# EAGLE library part MAX232_DUALEIA232DRIVER (library RS232Multiplexer)
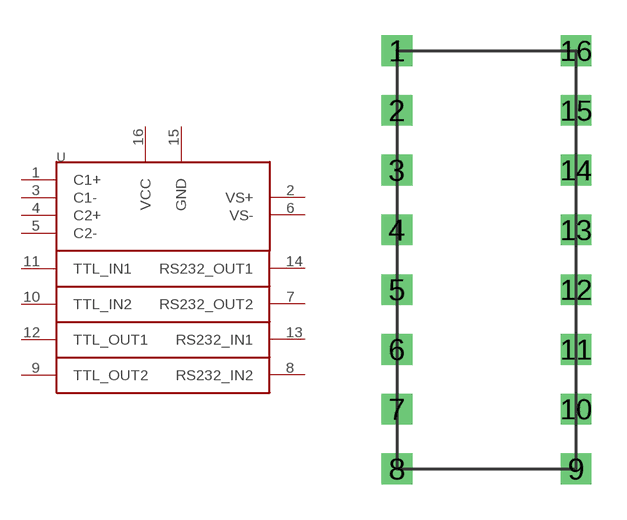
[diagram p1: symbol with the pads of GENERIC16; footprint GENERIC16]

Designator prefix -

## MAX232_DUALEIA232DRIVER  [GENERIC16]
1  C1+
2  VS+
3  C1-
4  C2+
5  C2-
6  VS-
7  RS232_OUT2
8  RS232_IN2
9  TTL_OUT2
10  TTL_IN2
11  TTL_IN1
12  TTL_OUT1
13  RS232_IN1
14  RS232_OUT1
15  GND
16  VCC

## Footprint GENERIC16 (pad centres in mm)
drill 0.8 square: 1 0,17.78; 2 0,15.24; 3 0,12.7; 4 0,10.16; 5 0,7.62; 6 0,5.08; 7 0,2.54; 8 0,0; 9 7.62,0; 10 7.62,2.54; 11 7.62,5.08; 12 7.62,7.62; 13 7.62,10.16; 14 7.62,12.7; 15 7.62,15.24; 16 7.62,17.78